# Altium footprint library WIREPAD-22AWG-4X-3.5MM.PcbLib: 1 footprints
Each footprint in its own frame and in the unit in brackets; x right, y up, seen from the top. Pads: shape width x height; smd on the part's side, far side on the other; paste and mask are expansions set on the pad; w line width, h text height; cw(c..) or ccw(c..) is an arc to the next point about the centre after c.
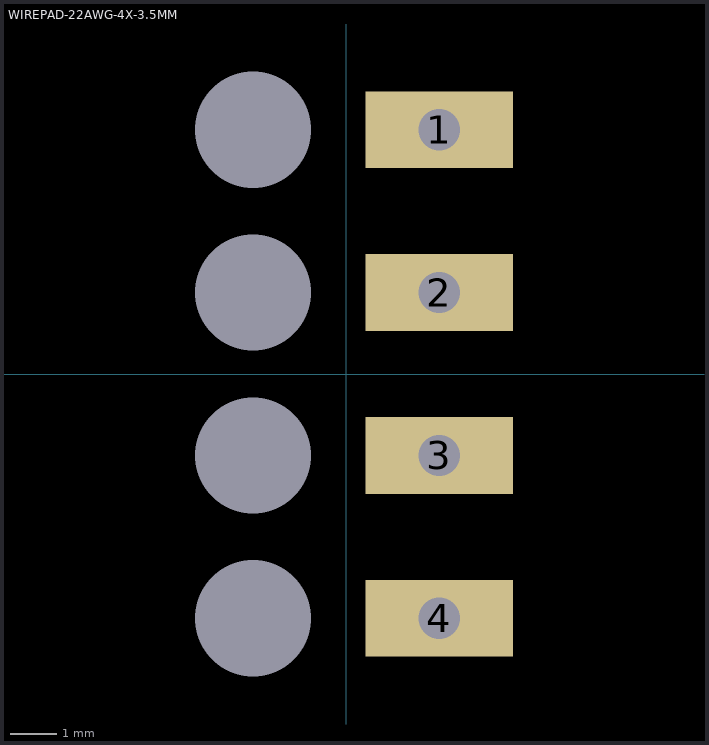
[diagram p0: the footprint, top view; thin cyan lines are the x and y axes]

## WIREPAD-22AWG-4X-3.5MM [mm]
height 1.6
pads (8):
  rect 3.175x1.651 hole 0.889: 1(2,5.25) 2(2,1.75) 3(2,-1.75) 4(2,-5.25)
  rect 0x0 hole 2.5 unplated: M2(-2,-5.25) M2(-2,-1.75) M2(-2,1.75) M2(-2,5.25)